# EAGLE library part 7508112339 (library WE-OLTI)
WE-OLTI Offline Flyback Transformers Characteristics Nominal input voltage: 85–265 VAC (120–375 VDC) Small size Low leakage inductance Multiple-output options Operating temperature: −40 °C to +125 °C Isolation Voltage: 2 kVAC to 5 kVAC Options for fixed frequency or quasi-resonant mode operation Most products meet reinforced insulation Applications Industrial controls USB chargers Utility metering devices Process controls Factory automation Security systems Garage door opener auxiliary supplies Home appliances Especially designed for several ICs from Texas Instruments Details see: www.we-online.com/en/components/products/WE-OLTI Created by Ella 2025-02-06 2025 (C) Würth Elektronik
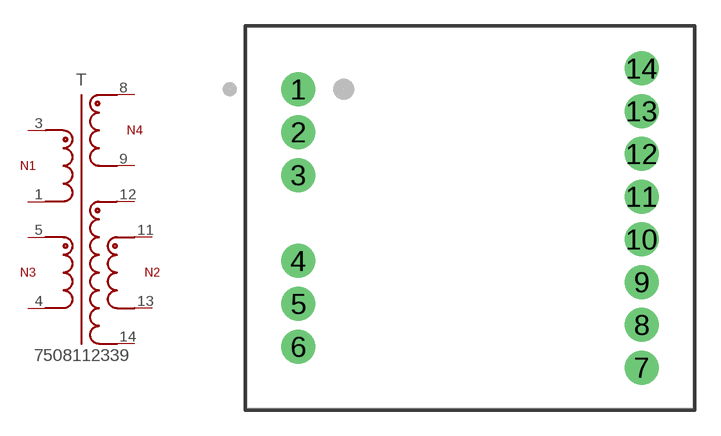
[diagram p7: symbol with the pads of WE-OLTI_EE20/10/6_L22.2W26H16.5; footprint WE-OLTI_EE20/10/6_L22.2W26H16.5]

Designator prefix T

## 7508112339 (AUXILIARY_VOLTAGE_1: 18 V; AUXILIARY_VOLTAGE_2: 6 V; CATEGORY: Transformers; DATASHEET: https://www.we-online.com/redexpert/spec/7508112339?ae; HEIGHT: 16.5 mm; INDUCTANCE: 220 uH; INPUT_VOLTAGE: 85 - 265 V (AC); INSULATION_TEST_VOLTAGE: 4500 V (AC); LENGTH: 22.2 mm; MANUFACTURER: Würth Elektronik; MOUNT: THT; MPN: 7508112339; OUTPUT_CURRENT_1: 3000 mA; OUTPUT_VOLTAGE_1: 12 V; SATURATION_CURRENT: 2.2 A; SIZE: EE20/10/6; SWITCHING-FREQUENCY: 100kHz; TURNS_RATIO: 7:1:1.5:0.5; VALUE: 220 uH; WIDTH: 25 mm)  [WE-OLTI_EE20/10/6_L22.2W26H16.5]
1  1  pas
3  3  pas
4  4  pas
5  5  pas
8  8  pas
9  9  pas
11  11  pas
12  12  pas
13  13  pas
14  14  pas

## Footprint WE-OLTI_EE20/10/6_L22.2W26H16.5 (pad centres in mm)
WE-OLTI Offline Flyback Transformers Size:EE20/10/6,THT,14pins LXWXH=22.2X26X16mm Bobbin: 070-5643
drill 1.32: 1 -10,7.5; 2 -10,5; 3 -10,2.5; 4 -10,-2.5; 5 -10,-5; 6 -10,-7.5; 7 10,-8.715; 8 10,-6.225; 9 10,-3.735; 10 10,-1.245; 11 10,1.245; 12 10,3.735; 13 10,6.225; 14 10,8.715